# Altium footprint library smtu1225_lf.PcbLib: 1 footprints
Each footprint in its own frame and in the unit in brackets; x right, y up, seen from the top. Pads: shape width x height; smd on the part's side, far side on the other; paste and mask are expansions set on the pad; w line width, h text height; cw(c..) or ccw(c..) is an arc to the next point about the centre after c.
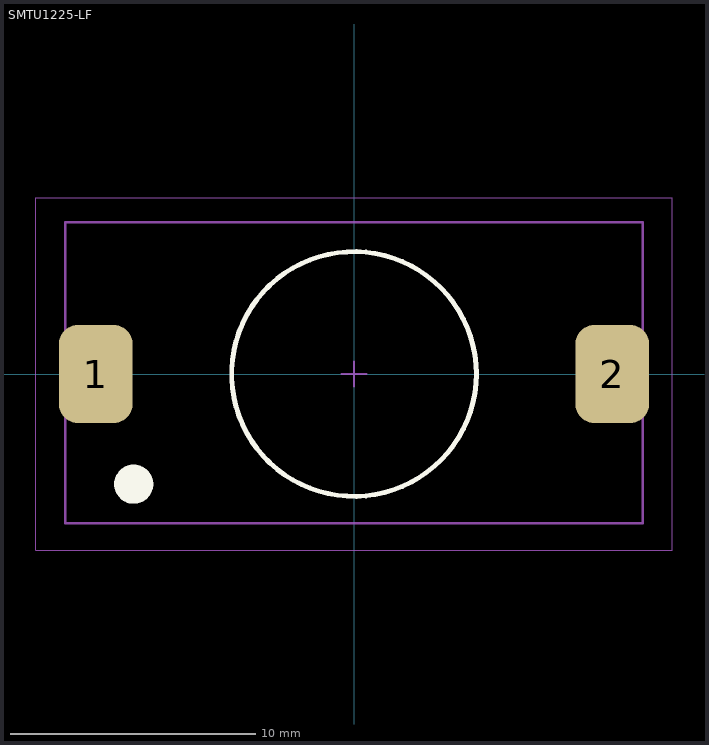
[diagram p0: the footprint, top view; thin cyan lines are the x and y axes]

## SMTU1225-LF [mm] "Battery Holder, Battery Compatibility CR1225, 2 Pins"
height 4.8
pads (2):
  rrect50% 3x4 smd: 1(-10.55,0) 2(10.55,0)
Top Overlay:
  circle w0.8: c-9,-4.5 r0.4
  circle w0.2: c0,0 r5
Top Comment:
  text ".Comment" at 1,8 h1.2
Top Designator:
  text ".Designator" at -0.5,8 h1.2
Top Component Outline:
  lines w0.1: -11.8,-6.1 -11.8,6.2 0,6.2 11.8,6.2 11.8,-6.1 -11.8,-6.1
Top Courtyard (Mech15):
  lines w0.05: -13,-7.2 -13,7.2 0,7.2 13,7.2 13,-7.2 -13,-7.2
  lines w0.1: -0.5,0 0.5,0 ; 0,-0.5 0,0.5
3D body "User Library-renata_smtu1225-lf.step": height 4.93, standoff 0, extent -11.769,-6.16 11.769,6.16